# Altium footprint library CONN FFC FPC 4POS 0.50MM.PcbLib: 1 footprints
Each footprint in its own frame and in the unit in brackets; x right, y up, seen from the top. Pads: shape width x height; smd on the part's side, far side on the other; paste and mask are expansions set on the pad; w line width, h text height; cw(c..) or ccw(c..) is an arc to the next point about the centre after c.
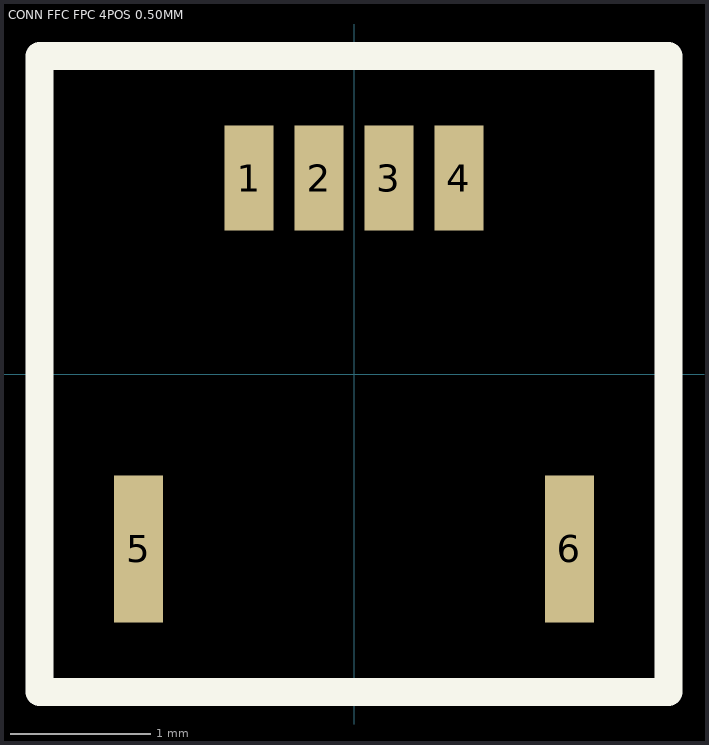
[diagram p0: the footprint, top view; thin cyan lines are the x and y axes]

## CONN FFC FPC 4POS 0.50MM [mm]
pads (6):
  rect 0.35x0.75 smd: 1(-0.75,1.4) 2(-0.25,1.4) 3(0.25,1.4) 4(0.75,1.4)
  rect 0.35x1.05 smd: 5(-1.54,-1.25) 6(1.54,-1.25)
Top Overlay:
  lines w0.2: -2.25,-2.275 2.25,-2.275 2.25,2.275 -2.25,2.275 -2.25,-2.275
3D body "5034800400.stp": height 1.88, standoff -0.02, extent -1.85,-1.8 1.85,1.8